# EAGLE library part ESD5384 (library My Library)
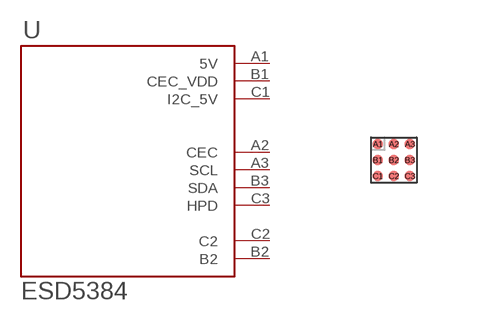
[diagram p1: symbol with the pads of ESD5384; footprint ESD5384]

Designator prefix U

## ESD5384  [ESD5384]
A1  5V
A2  CEC
A3  SCL
B1  CEC_VDD
B2  B2
B3  SDA
C1  I2C_5V
C2  C2
C3  HPD

## Footprint ESD5384 (pad centres in mm)
smd 0.1 x 0.1: A1 -0.4,0.4; A2 0,0.4; A3 0.4,0.4; B1 -0.4,0; B2 0,0; B3 0.4,0; C1 -0.4,-0.4; C2 0,-0.4; C3 0.4,-0.4